# Altium footprint library BlinkPico.PcbLib: 6 footprints
Each footprint in its own frame and in the unit in brackets; x right, y up, seen from the top. Pads: shape width x height; smd on the part's side, far side on the other; paste and mask are expansions set on the pad; w line width, h text height; cw(c..) or ccw(c..) is an arc to the next point about the centre after c.
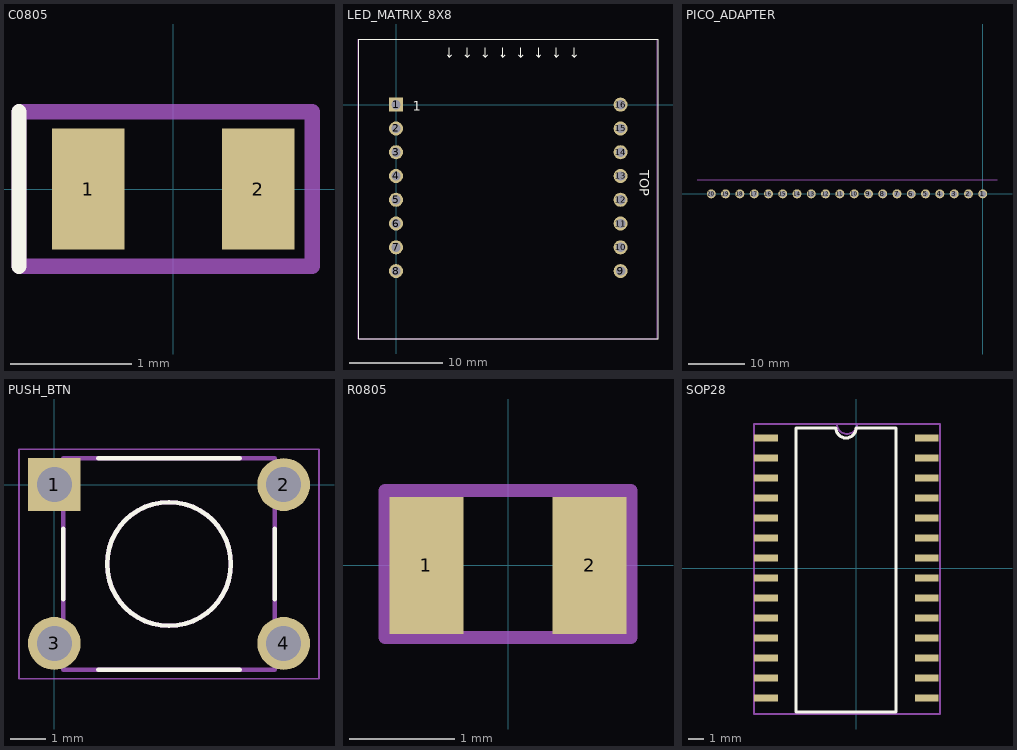
[diagram p0: the footprints below, top view; thin cyan lines are the x and y axes]

## C0805 [mm]
pads (2):
  rect 0.6x1 smd mask+0.07: 1(-0.7,0) 2(0.7,0)
Top Overlay:
  lines w0.127: -1.27,-0.635 -1.27,0.635
Assembly:
  lines w0.127: -1.27,-0.635 1.143,-0.635 1.143,0.635 -1.27,0.635 -1.27,-0.635
  text "'.Designator'" at -1.016,-0.508 h1
3D body "T529P106M010AAE200.STEP": height 1.01, standoff 0.01, extent -1,-0.625 1,0.625

## LED_MATRIX_8X8 [mm]
pads (16):
  rect 1.5x1.5 hole 1: 1(0,0)
  round 1.5 hole 1: 2(0,-2.54) 3(0,-5.08) 4(0,-7.62) 5(0,-10.16) 6(0,-12.7) 7(0,-15.24) 8(0,-17.78) 9(24,-17.78) 10(24,-15.24) 11(24,-12.7) 12(24,-10.16) 13(24,-7.62) 14(24,-5.08) 15(24,-2.54) 16(24,0)
Top Overlay:
  lines w0.127: 5.461,5.334 5.715,5.08 ; 5.715,6.096 5.715,5.08 ; 5.969,5.334 5.715,5.08 ; 7.366,5.334 7.62,5.08 ; 7.62,6.096 7.62,5.08 ; 7.874,5.334 7.62,5.08 ; 9.271,5.334 9.525,5.08 ; 9.525,6.096 9.525,5.08 ; 9.779,5.334 9.525,5.08 ; 11.176,5.334 11.43,5.08 ; 11.43,6.096 11.43,5.08 ; 11.684,5.334 11.43,5.08 ; 13.081,5.334 13.335,5.08 ; 13.335,6.096 13.335,5.08 ; 13.589,5.334 13.335,5.08 ; 14.986,5.334 15.24,5.08 ; 15.24,6.096 15.24,5.08 ; 15.494,5.334 15.24,5.08 ; 16.891,5.334 17.145,5.08 ; 17.145,6.096 17.145,5.08 ; 17.399,5.334 17.145,5.08 ; 18.796,5.334 19.05,5.08 ; 19.05,6.096 19.05,5.08 ; 19.304,5.334 19.05,5.08 ; -4,-25 28,-25 28,7 -4,7 -4,-25
  text "TOP" at 26.035,-6.985 h1
  text "1" at 1.778,-0.635 h1
Assembly:
  lines w0.127: -4.064,-25.019 27.94,-25.019 27.94,6.985 -3.81,6.985 -4.064,6.985 -4.064,-25.019
  text "'.Designator'" at 10.033,-9.398 h1
3D body "LED_MATRIX.step": height 7.01, standoff -6.99, extent -4,-25 28,7

## PICO_ADAPTER [mm]
pads (20):
  round 1.6 hole 1.1: 1(0,0) 2(-2.54,0) 3(-5.08,0) 4(-7.62,0) 5(-10.16,0) 6(-12.7,0) 7(-15.24,0) 8(-17.78,0) 9(-20.32,0) 10(-22.86,0) 11(-25.4,0) 12(-27.94,0) 13(-30.48,0) 14(-33.02,0) 15(-35.56,0) 16(-38.1,0) 17(-40.64,0) 18(-43.18,0) 19(-45.72,0) 20(-48.26,0)
Mechanical 15:
  lines w0.127: -50.8,2.54 2.54,2.54
  text "Rpi Pico Right Edge" at -32.007,2.54 h1

## PUSH_BTN [mm]
pads (4):
  rect 1.498x1.498 hole 0.99: 1(0,0)
  round 1.498 hole 0.99: 2(6.5,0) 3(0,-4.5) 4(6.5,-4.5)
Top Overlay:
  circle w0.127: c3.25,-2.25 r1.755
  lines w0.127: 0.255,-3.25 0.255,-1.25 ; 1.25,-5.245 5.25,-5.245 ; 1.25,0.745 5.25,0.745 ; 6.245,-3.25 6.245,-1.25
Assembly:
  circle w0.127: c3.25,-2.25 r1.755
  lines w0.127: 0.255,-5.245 0.255,0.745 6.245,0.745 6.245,-5.245 0.255,-5.245
Mechanical 15:
  lines w0.05: -1,-5.5 -1,1 7.5,1 7.5,-5.5 -1,-5.5
3D body "PUSH_BUTTON.step": height 7, standoff -3.5, extent -0.775,-5.386 7.125,0.814

## R0805 [mm]
pads (2):
  rect 0.7x1.3 smd mask+0.02: 1(-0.775,0) 2(0.775,0)
Assembly:
  lines w0.127: -1.168,-0.686 1.168,-0.686 1.168,0.711 -1.168,0.711 -1.168,-0.686
  text "'.Designator'" at -1.168,-0.686 h1.2
3D body "RES_2013-0805.step": height 0.77, standoff 0.01, extent -1.15,-0.675 1.15,0.675

## SOP28 [mm]
pads (28):
  rect 1.5x0.45 smd mask+0.07: 1(-5.715,8.255) 2(-5.715,6.985) 3(-5.715,5.715) 4(-5.715,4.445) 5(-5.715,3.175) 6(-5.715,1.905) 7(-5.715,0.635) 8(-5.715,-0.635) 9(-5.715,-1.905) 10(-5.715,-3.175) 11(-5.715,-4.445) 12(-5.715,-5.715) 13(-5.715,-6.985) 14(-5.715,-8.255) 15(4.5,-8.255) 16(4.5,-6.985) 17(4.5,-5.715) 18(4.5,-4.445) 19(4.5,-3.175) 20(4.5,-1.905) 21(4.5,-0.635) 22(4.5,0.635) 23(4.5,1.905) 24(4.5,3.175) 25(4.5,4.445) 26(4.5,5.715) 27(4.5,6.985) 28(4.5,8.255)
Top Overlay:
  lines w0.2: -3.81,-9.144 -3.81,8.89 -1.27,8.89 ccw(c-0.635,8.89) 0,8.89 2.54,8.89 2.54,-9.144 -3.81,-9.144
Assembly:
  lines w0.127: -1.206,9.144 ccw(c-0.572,9.144) 0.064,9.144 ; -6.477,-9.271 5.334,-9.271 5.334,9.144 -6.477,9.144 -6.477,-9.271
  text "'.Designator'" at -1.524,0.508 h2
3D body "SOP28.step": height 1.63, standoff 0.01, extent -6.223,-9.093 4.953,9.017